# Altium footprint library SIM808_PCB.PcbLib: 1 footprints
Each footprint in its own frame and in the unit in brackets; x right, y up, seen from the top. Pads: shape width x height; smd on the part's side, far side on the other; paste and mask are expansions set on the pad; w line width, h text height; cw(c..) or ccw(c..) is an arc to the next point about the centre after c.
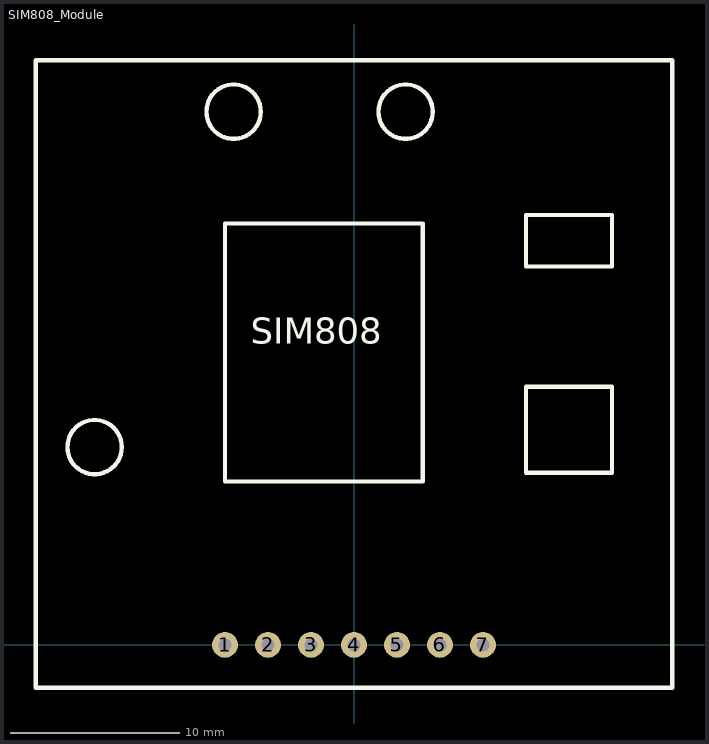
[diagram p0: the footprint, top view; thin cyan lines are the x and y axes]

## SIM808_Module [mil]
pads (7):
  round 60 hole 30: 1(-300,0) 2(-200,0) 3(-100,0) 4(0,0) 5(100,0) 6(200,0) 7(300,0)
Top Overlay:
  circle w10: c120,1240 r63.25
  circle w10: c-280,1240 r63.25
  circle w10: c-603.25,460 r63.25
  lines w10: -740,-100 0,-100 740,-100 740,1360 -740,1360 -740,-100 ; -300,380 160,380 160,980 -300,980 -300,380 ; 400,400 600,400 600,600 580,600 400,600 400,400 ; 400,880 600,880 600,1000 400,1000 400,880
  text "SIM808" at -240,700 h60